# Altium footprint library TVMD.PcbLib: 4 footprints
Each footprint in its own frame and in the unit in brackets; x right, y up, seen from the top. Pads: shape width x height; smd on the part's side, far side on the other; paste and mask are expansions set on the pad; w line width, h text height; cw(c..) or ccw(c..) is an arc to the next point about the centre after c.
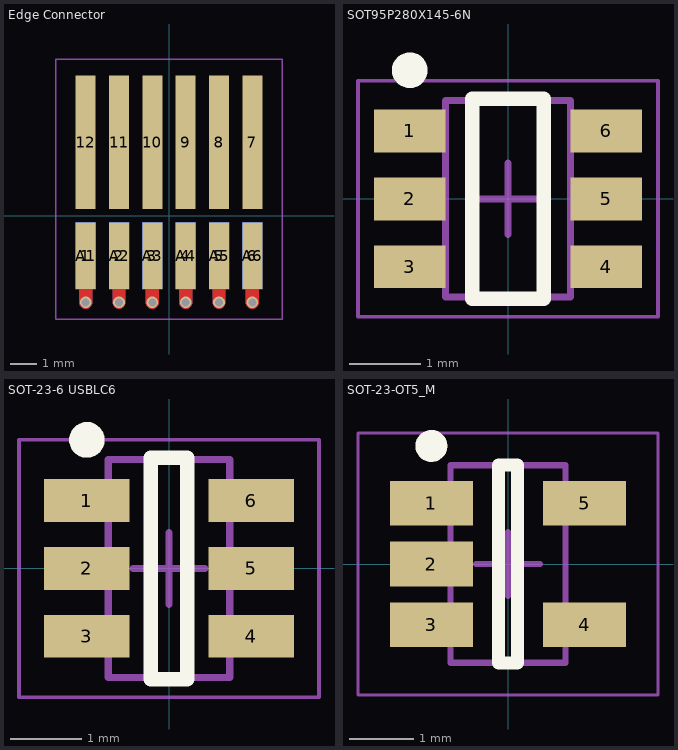
[diagram p0: the footprints below, top view; thin cyan lines are the x and y axes]

## Edge Connector [mil]
pads (18):
  rect 30x100 smd: 1(-125,-60) 2(-75,-60) 3(-25,-60) 4(25,-60) 5(75,-60) 6(125,-60)
  rect 30x200 smd paste+0: 7(125,110) 8(75,110) 9(25,110) 10(-25,110) 11(-75,110) 12(-125,110)
  rect 30x100 smd far side paste+0: A1(-125,-60) A2(-75,-60) A3(-25,-60) A4(25,-60) A5(75,-60) A6(125,-60)
via -125,-130 diameter 17.72 hole 11.81
via -75,-130 diameter 17.72 hole 11.81
via -25,-130 diameter 17.72 hole 11.81
via 25,-130 diameter 17.72 hole 11.81
via 75,-130 diameter 17.72 hole 11.81
via 125,-130 diameter 17.72 hole 11.81
Top Layer:
  lines w20: -125,-130 -125,-60 ; -75,-130 -75,-60 ; -25,-130 -25,-60 ; 25,-130 25,-60 ; 75,-130 75,-60 ; 125,-130 125,-60
Bottom Layer:
  lines w20: -125,-130 -125,-60 ; -75,-130 -75,-60 ; -25,-130 -25,-60 ; 25,-130 25,-60 ; 75,-130 75,-60 ; 125,-130 125,-60
Top Courtyard:
  lines w1.97: -170,-155 -170,235 170,235 170,-155 -170,-155

## SOT95P280X145-6N [mm] "SOT23, 6-Leads, Body 2.90x2.80mm, Pitch 0.95mm, IPC Medium Density"
height 1.45
pads (6):
  rect 1x0.6 smd: 1(-1.375,0.95) 2(-1.375,0) 3(-1.375,-0.95) 4(1.375,-0.95) 5(1.375,0) 6(1.375,0.95)
Top Overlay:
  circle w0.25: c-1.375,1.8 r0.125
  lines w0.2: -0.5,-1.4 -0.5,1.4 0.5,1.4 0.5,-1.4 -0.5,-1.4
Top 3D Body:
  lines w0.1: -0.875,-1.375 0.875,-1.375 0.875,1.375 -0.875,1.375 -0.875,-1.375
Top Courtyard:
  lines w0.05: -2.1,-1.65 2.1,-1.65 2.1,1.65 -2.1,1.65 -2.1,-1.65
  lines w0.1: -0.5,0 0.5,0 ; 0,-0.5 0,0.5
3D body "SOT95P280X145-6N.step": height 1.45, standoff 0, extent -1.5,-1.375 1.5,1.375

## SOT-23-6 USBLC6 [mm]
pads (6):
  rect 1.2x0.6 smd: 1(-1.15,0.95) 2(-1.15,0) 3(-1.15,-0.95) 4(1.15,-0.95) 5(1.15,0) 6(1.15,0.95)
Top Overlay:
  circle w0.25: c-1.15,1.8 r0.125
  lines w0.2: -0.254,-1.55 -0.254,1.55 0.254,1.55 0.254,-1.55 -0.254,-1.55
Top 3D Body:
  lines w0.1: -0.85,-1.525 0.85,-1.525 0.85,1.525 -0.85,1.525 -0.85,-1.525
Top Courtyard:
  lines w0.05: -2.1,-1.8 2.1,-1.8 2.1,1.8 -2.1,1.8 -2.1,-1.8
  lines w0.1: -0.5,0 0.5,0 ; 0,-0.5 0,0.5
3D body "SOT23, 6, USBLC6.step": height 1.45, standoff 0, extent -1.6,-1.525 1.6,1.525

## SOT-23-OT5_M [mm] "SOT23, 5-Leads, Body 2.9x1.7mm, Pitch 0.95mm, Lead Span 2.8mm, IPC Low Density"
height 1.45
pads (5):
  rect 1.3x0.7 smd: 1(-1.2,0.95) 2(-1.2,0) 3(-1.2,-0.95) 4(1.2,-0.95) 5(1.2,0.95)
Top Overlay:
  circle w0.25: c-1.2,1.85 r0.125
  lines w0.2: -0.15,-1.55 0.15,-1.55 0.15,1.55 -0.15,1.55 -0.15,-1.55
Top 3D Body:
  lines w0.1: -0.9,-1.55 -0.9,1.55 0.9,1.55 0.9,-1.55 -0.9,-1.55
Top Courtyard:
  lines w0.05: -2.35,-2.05 -2.35,2.05 2.35,2.05 2.35,-2.05 -2.35,-2.05
  lines w0.1: -0.5,0 0.5,0 ; 0,-0.5 0,0.5
3D body: height 1.45, standoff 0, extent -0.9,-1.55 0.9,1.55